# Altium schematic symbol library Kapitoshka.SchLib: 55 symbols
Pins are listed as number, name and electrical type; pins without a type are passive.

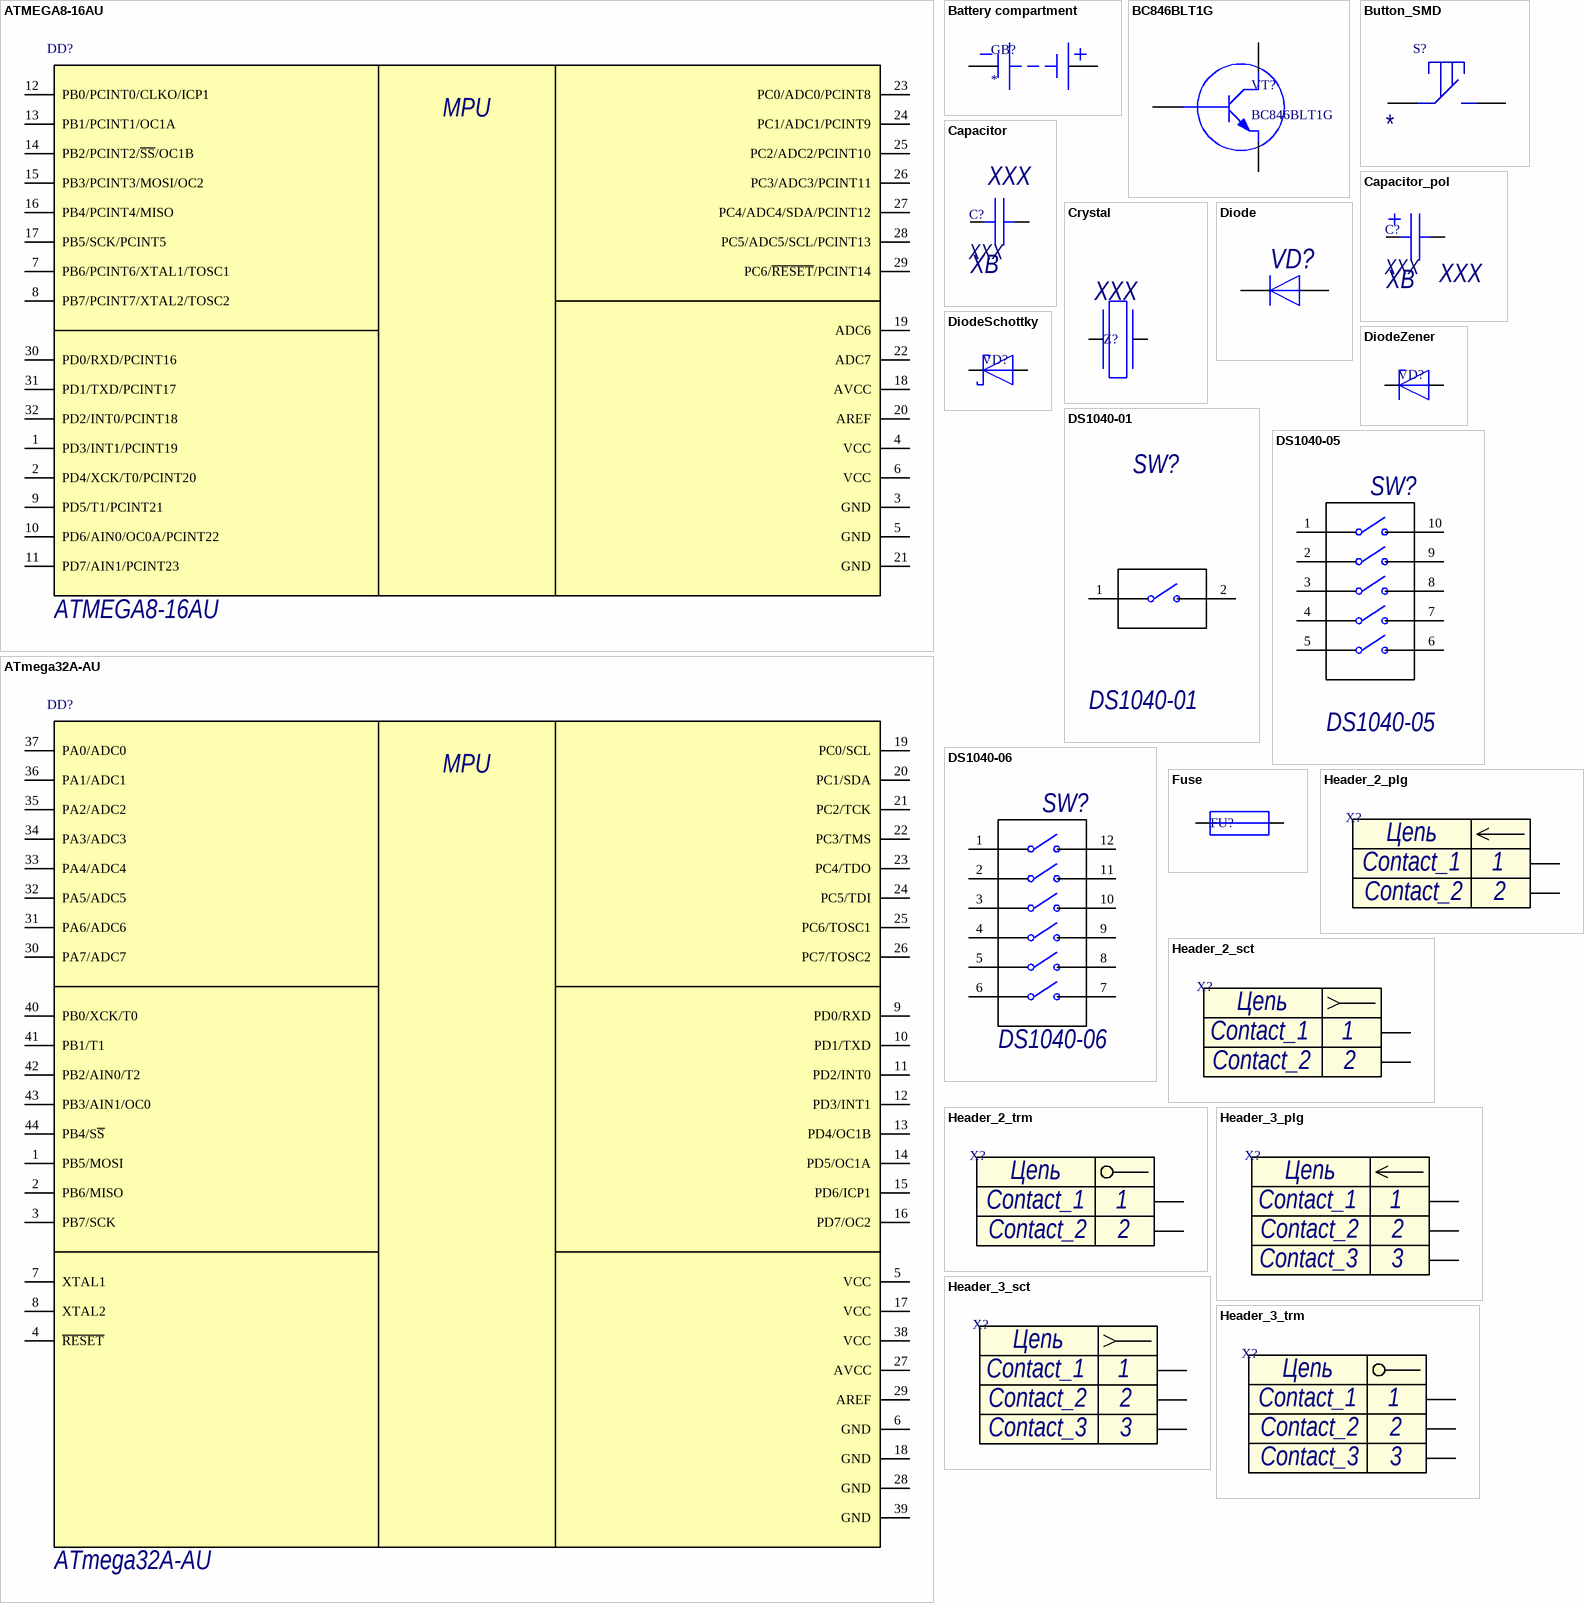
[diagram p0: symbols ATMEGA8-16AU to Header_3_trm]

## ATMEGA8-16AU
designator DD?
Микроконтроллер 32-pin; Name: ATMEGA8-16AU
footprint TQFP-32 (Thin QFP, 32-Leads, Body 7x7mm, Pitch 0.8mm, IPC Medium Density)
pins: 1 PD3/INT1/PCINT19, 2 PD4/XCK/T0/PCINT20, 3 GND, 4 VCC, 5 GND, 6 VCC, 7 PB6/PCINT6/XTAL1/TOSC1, 8 PB7/PCINT7/XTAL2/TOSC2, 9 PD5/T1/PCINT21, 10 PD6/AIN0/OC0A/PCINT22, 11 PD7/AIN1/PCINT23, 12 PB0/PCINT0/CLKO/ICP1, 13 PB1/PCINT1/OC1A, 14 PB2/PCINT2/~{SS}/OC1B, 15 PB3/PCINT3/MOSI/OC2, 16 PB4/PCINT4/MISO, 17 PB5/SCK/PCINT5, 18 AVCC, 19 ADC6, 20 AREF, 21 GND, 22 ADC7, 23 PC0/ADC0/PCINT8, 24 PC1/ADC1/PCINT9, 25 PC2/ADC2/PCINT10, 26 PC3/ADC3/PCINT11, 27 PC4/ADC4/SDA/PCINT12, 28 PC5/ADC5/SCL/PCINT13, 29 PC6/~{RESET}/PCINT14, 30 PD0/RXD/PCINT16, 31 PD1/TXD/PCINT17, 32 PD2/INT0/PCINT18
text: MPU

## ATmega32A-AU
designator DD?
Микроконтроллер 44-pin; Name: ATmega32A-AU
footprint TQFP-44
pins: 1 PB5/MOSI, 2 PB6/MISO, 3 PB7/SCK, 4 ~{RESET}, 5 VCC, 6 GND, 7 XTAL1, 8 XTAL2, 9 PD0/RXD, 10 PD1/TXD, 11 PD2/INT0, 12 PD3/INT1, 13 PD4/OC1B, 14 PD5/OC1A, 15 PD6/ICP1, 16 PD7/OC2, 17 VCC, 18 GND, 19 PC0/SCL, 20 PC1/SDA, 21 PC2/TCK, 22 PC3/TMS, 23 PC4/TDO, 24 PC5/TDI, 25 PC6/TOSC1, 26 PC7/TOSC2, 27 AVCC, 28 GND, 29 AREF, 30 PA7/ADC7, 31 PA6/ADC6, 32 PA5/ADC5, 33 PA4/ADC4, 34 PA3/ADC3, 35 PA2/ADC2, 36 PA1/ADC1, 37 PA0/ADC0, 38 VCC, 39 GND, 40 PB0/XCK/T0, 41 PB1/T1, 42 PB2/AIN0/T2, 43 PB3/AIN1/OC0, 44 PB4/S~{S}
text: MPU

## Battery compartment
designator GB?
Value: *
footprint KLS5-818-D
footprint KLS5-817-D
pins: 1, 2

## BC846BLT1G
designator VT?
footprint SOT23-3
pins: 1 Base, 2 Emitter, 3 Collector

## Button_SMD
designator S?
Кнопка; Name: *
footprint Button_SMD (Кнопка)
footprint DTSM 32 (Кнопка)
pins: 1, 3

## Capacitor
designator C?, comment XXX  Voltage: XВ
Конденсатор; Value: XXX
footprint C0805_A
footprint C0805_H
footprint C1210_A
footprint C1210_H
footprint C1812_A
footprint C1812_H
footprint C2220_A
footprint C2220_H
footprint C0603
footprint C1206
footprint C0805
pins: 1, 2

## Capacitor_pol
designator C?, comment XXX  Voltage: XВ
Конденсатор полярный; Value: XXX
footprint CAP_PIN_RAD_8x8x11
footprint Cap_SMD_radial_polar(10x10.5) (ECAP SMD, 220 мкФ, 35В)
footprint SMA_A
footprint C1206
footprint 3216 Case-A (Tantalum capacitor 3216 Case-A)
pins: 1, 2

## Crystal
designator Z?, comment XXX
Кварцевый резонатор; Value: XXX
footprint HC-49 (Кварцевый резонатор)
footprint HC-49SM (Кварцевый резонатор поверхностного монтажа)
footprint QSMD3.2x5 (KX-9A 8MHz)
pins: 1, 2

## Diode
designator VD?
Диод
footprint SOD-323
footprint SOD523
pins: 1 K, 2 A

## DiodeSchottky
designator VD?
Диод Шоттки
footprint SOD523_A
footprint SOD523_H
footprint SOD123_A
footprint SOD123_H
footprint SMA
pins: 1 K, 2 A

## DiodeZener
designator VD?
Стабилитрон
footprint SOD523_A
footprint SOD523_H
footprint SOT23-2_A
footprint SOT23-2_H
footprint SMA
pins: 1 K, 2 A

## DS1040-01
designator SW?
DIP переключатель
footprint DIP1
pins: 1, 2

## DS1040-05
designator SW?
DIP переключатель
footprint DIP5
footprint NHDS-06 (Переключатель DIP 6поз. 1.27мм)
pins: 1, 2, 3, 4, 5, 6, 7, 8, 9, 10

## DS1040-06
designator SW?
DIP переключатель
footprint DIP6
footprint NHDS-06 (Переключатель DIP 6поз. 1.27мм)
pins: 1, 2, 3, 4, 5, 6, 7, 8, 9, 10, 11, 12

## Fuse
designator FU?
Предохранитель; Value: XXX
footprint R0805_H
footprint R0805_A
footprint R0603_A
footprint R0402_H
footprint FH - 102
footprint MF - R050 (Самовосстанавливающийся предохранитель)
footprint F5.1
pins: 1, 2

## Header_2_plg
designator X?
Разъем - 2 конт. вилка; Contact_1: Contact_1; Contact_2: Contact_2
footprint CWF-2
footprint Terminal_2.54-2
footprint PWL-2R
footprint PBS2-2
footprint MW-2M
footprint MW-2MR
footprint MOLEX_picoblade_2
footprint PLS2-2
pins: 1, 2
text: Цепь

## Header_2_sct
designator X?
Разъем - 2 конт. розетка; Contact_1: Contact_1; Contact_2: Contact_2
footprint Terminal_2.54-2
footprint PWL-2R
footprint PBS2-2
footprint MW-2M
footprint MW-2MR
footprint MOLEX_picoblade_2
footprint CWF-2
footprint 2HOLE
footprint DS1040 (DIP переключатель 1pin)
pins: 1, 2
text: Цепь

## Header_2_trm
designator X?
Разъем - 2 конт. клемма; Contact_1: Contact_1; Contact_2: Contact_2
footprint Terminal_2.54-2
footprint PWL-2R
footprint PBS2-2
footprint MW-2M
footprint MW-2MR
footprint MOLEX_picoblade_2
footprint MF_2x1_H
pins: 1, 2
text: Цепь

## Header_3_plg
designator X?
Разъем - 3 конт. вилка; Contact_1: Contact_1; Contact_2: Contact_2; Contact_3: Contact_3
footprint POWJACK
footprint CWF-3
footprint CWF-3R
pins: 1, 2, 3
text: Цепь

## Header_3_sct
designator X?
Разъем - 2 конт. розетка; Contact_1: Contact_1; Contact_2: Contact_2; Contact_3: Contact_3
footprint MW-3MR
footprint CWF-3
footprint CWF-3R
footprint MOLEX_picoblade_3
footprint MOLEX_picoblade_3R
footprint PWL-3R
footprint MW-3M
footprint PLS2-3
pins: 1, 2, 3
text: Цепь

## Header_3_trm
designator X?
Разъем - 3 конт. клемма; Contact_1: Contact_1; Contact_3: Contact_3; Contact_2: Contact_2
footprint DT-128V-3
pins: 1, 2, 3
text: Цепь

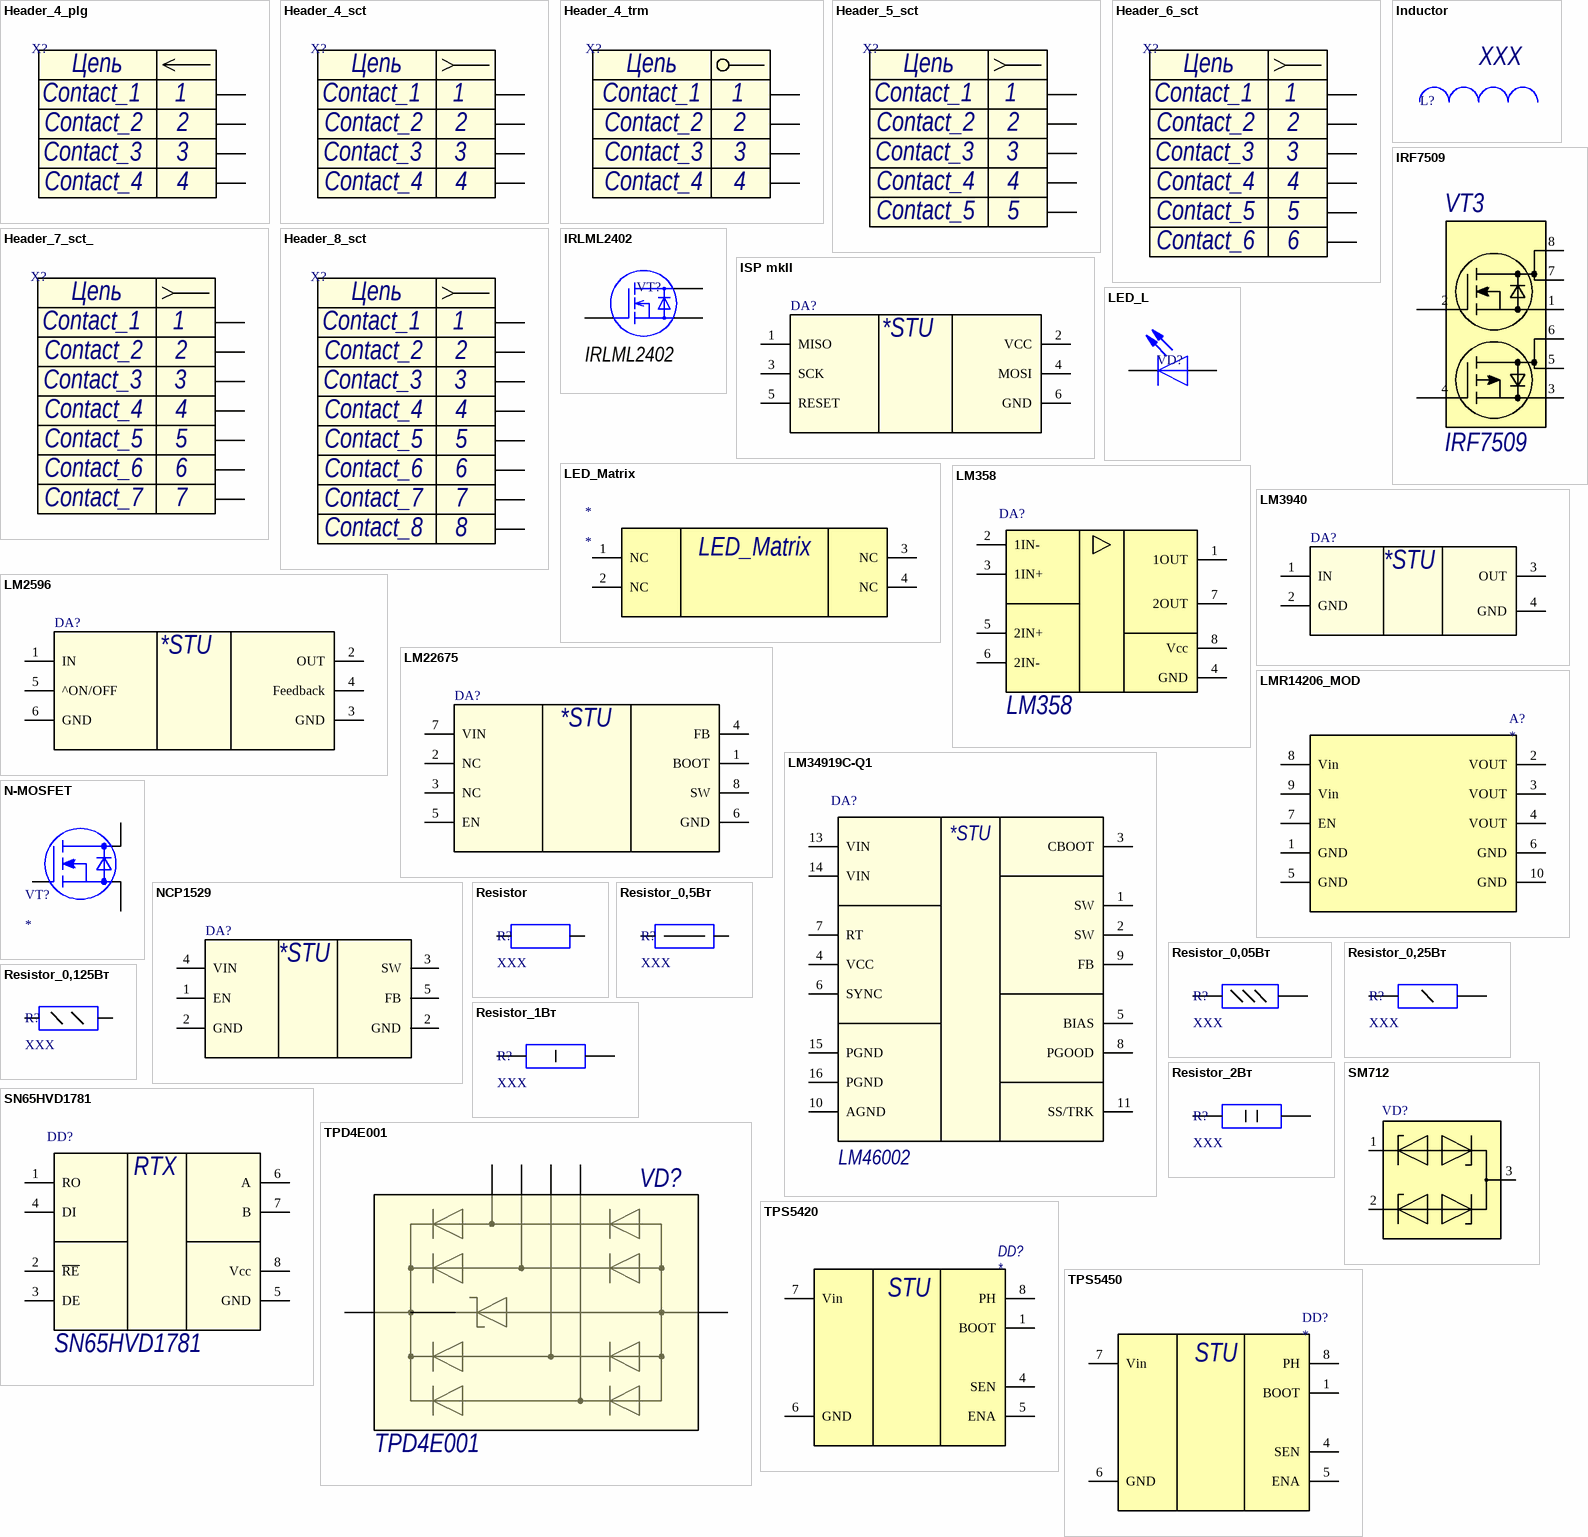
[diagram p1: symbols Header_4_plg to TPS5450]

## Header_4_plg
designator X?
Разъем - 4 конт. вилка; Contact_1: Contact_1; Contact_2: Contact_2; Contact_3: Contact_3; Contact_4: Contact_4
footprint MOLEX_picoblade_4
footprint MOLEX_picoblade_4R
footprint MW-4M
footprint MW-4MR
footprint PLS-4
pins: 1, 2, 3, 4
text: Цепь

## Header_4_sct
designator X?
Разъем - 4 конт. розетка; Contact_1: Contact_1; Contact_2: Contact_2; Contact_3: Contact_3; Contact_4: Contact_4
footprint MOLEX_picoblade_4
footprint MOLEX_picoblade_4R
footprint MW-4M
footprint MW-4MR
footprint PLS-4
footprint USB-Mini
footprint USB-Mini - duplicate
footprint USB-Mini DIP
footprint USBB-J1
footprint USB-B Micro
footprint 4HOLE
footprint OLED SSD1306 (OLED дисплей SSD1306)
pins: 1, 2, 3, 4
text: Цепь

## Header_4_trm
designator X?
Разъем - 3 конт. клемма; Contact_1: Contact_1; Contact_3: Contact_3; Contact_2: Contact_2; Contact_4: Contact_4
footprint DT-128V-4
footprint CWF-4
pins: 1, 2, 2, 2
text: Цепь; 3; 4

## Header_5_sct
designator X?
Разъем - 4 конт. розетка; Contact_1: Contact_1; Contact_2: Contact_2; Contact_3: Contact_3; Contact_4: Contact_4; Contact_5: Contact_5
footprint USB-B Micro
footprint MW-5M
footprint MW-5MR
footprint MOLEX_picoblade_5
footprint CWF-5R
footprint 5HOLE
pins: 1, 2, 3, 4, 5
text: Цепь

## Header_6_sct
designator X?
Разъем - 5 конт. розетка; Contact_1: Contact_1; Contact_2: Contact_2; Contact_3: Contact_3; Contact_4: Contact_4; Contact_5: Contact_5; Contact_6: Contact_6
footprint CWF-6R
footprint CWF-6
footprint PLS2-6 (Разъем для программатора ISP)
pins: 1, 2, 3, 4, 5, 6
text: Цепь

## Header_7_sct_
designator X?
Разъем - 5 конт. розетка; Contact_1: Contact_1; Contact_2: Contact_2; Contact_3: Contact_3; Contact_4: Contact_4; Contact_5: Contact_5; Contact_7: Contact_7; Contact_6: Contact_6
footprint 7HOLE
pins: 1, 2, 3, 4, 5, 6, 7
text: Цепь

## Header_8_sct
designator X?
Разъем - 5 конт. розетка; Contact_1: Contact_1; Contact_2: Contact_2; Contact_3: Contact_3; Contact_4: Contact_4; Contact_5: Contact_5; Contact_6: Contact_6; Contact_7: Contact_7; Contact_8: Contact_8
footprint PLS2-8 (Разъем для программатора ISP)
footprint 8HOLE (Разъем для программатора ISP)
footprint ESP8266 (Разъем для ESP8266)
pins: 1, 2, 3, 4, 5, 6, 7, 8
text: Цепь

## Inductor
designator L?, comment XXX
Катушка индуктивности; Value: XXX
footprint Ind 8.3x8.3x4
footprint IND_CDC5D23B
footprint IND_CDR74NP
footprint IND_CDRH4D28C_A
footprint IND_CDRH4D28C_H
footprint IND_CDRH104
footprint IND_CDRH127
footprint IND_RCR-875D
footprint IND_SRU1048_A
footprint IND_SRU1048_H
footprint L0603_A
footprint L0603_H
footprint L0805_A
footprint L_1210
footprint SDR0604 (SMD Power Inductors)
pins: 1, 2

## IRF7509
designator VT3
Комплементарная сборка МОП; Name: IRF7509
footprint Micro8
pins: 1 S1, 2 G1, 3 S2, 4 G2, 5 D2, 6 D2, 7 D1, 8 D1

## IRLML2402
designator VT?
MOSFET; Manufacturer: International Rectifier; Manufacturer Part Number: IRLML2402GTRPBF; FET Type: MOSFET N-Channel, Metal Oxide; FET Feature: Logic Level Gate; Drain to Source Voltage (Vdss): 20V; Current - Continuous Drain (Id) @ 25°C: 1.2A (Ta); Rds On (Max) @ Id, Vgs: 250 mOhm @ 930mA, 4.5V; Vgs(th) (Max) @ Id: 700mV @ 250µA; Gate Charge (Qg) @ Vgs: 3.9nC @ 4.5V; Input Capacitance (Ciss) @ Vds: 110pF @ 15V; Power - Max: 540mW; Supplier 1: Digi-Key; Supplier Part Number 1: IRLML2402GTRPBFTR-ND; Category: Discrete Semiconductor Products; Packaging: Tape & Reel (TR); Supplier: Digi-Key; RoHS: RoHS Compliant; Mounting Type: Surface Mount; Package / Case: TO-236-3, SC-59, SOT-23-3; Supplier Device Package: Micro3™/SOT-23; Supplier Part Number: IRLML2402GTRPBFTR-ND; Name: IRLML2402
footprint SOT23-3_A
footprint SOT23-3_H
pins: 1 G, 2 S, 3 D

## ISP mkII
designator DA?
Разъем программатора ISP mkII
footprint PLS2-6 (Разъем для программатора ISP)
pins: 1 MISO (power), 2 VCC (power), 3 SCK (power), 4 MOSI (power), 5 RESET (power), 6 GND (power)
text: *STU

## LED_L
designator VD?
Светодиод
footprint D0603_A
footprint D0603_H
footprint L_0805 (SMD LED LAMP)
pins: 1 K, 2 A

## LED_Matrix
designator *
Contact_1: GND; Contact_4: GND; Contact_3: GND; Contact_2: GND
footprint LED_Matrix (Светодиодная матрица 8х8 32х32)
pins: 1 NC, 2 NC, 3 NC, 4 NC

## LM358
designator DA?
ОУ; Name: LM358
footprint SO8_A
pins: 1 1OUT, 2 1IN-, 3 1IN+, 4 GND, 5 2IN+, 6 2IN-, 7 2OUT, 8 Vcc

## LM2596
designator DA?
3-A Step-Down Voltage Regulator
footprint TO-263
pins: 1 IN (power), 2 OUT (power), 3 GND (power), 4 Feedback (power), 5 ^ON/OFF (power), 6 GND (power)
text: *STU

## LM3940
designator DA?
Low-Dropout Regulator for 5-V to 3.3-V Conversion
footprint SOT223
pins: 1 IN (power), 2 GND (power), 3 OUT (power), 4 GND (power)
text: *STU

## LM22675
designator DA?
3-A Step-Down Voltage Regulator
footprint HSOP
pins: 1 BOOT (power), 2 NC (power), 3 NC (power), 4 FB (power), 5 EN (power), 6 GND (power), 7 VIN (power), 8 SW (power)
text: *STU

## LM34919C-Q1
designator DA?, comment LM46002
DC\DC; Name: LM46002
footprint HTSSOP10
pins: 1 SW, 2 SW, 3 CBOOT, 4 VCC, 5 BIAS, 6 SYNC, 7 RT, 8 PGOOD, 9 FB, 10 AGND, 11 SS/TRK, 13 VIN, 14 VIN, 15 PGND, 16 PGND
text: *STU

## LMR14206_MOD
designator A?
DC/DC
footprint LMR14206_MOD
pins: 1 GND, 2 VOUT, 3 VOUT, 4 VOUT, 5 GND, 6 GND, 7 EN, 8 Vin, 9 Vin, 10 GND

## N-MOSFET
designator VT?
N-MOSFET; Name: *; Vgs: *; Vds: *; Ids: *
footprint SOT23-3_A
footprint SOT23-3_H
pins: 1 G, 2 S, 3 D

## NCP1529
designator DA?
Output Voltage Step-down  Converter
footprint TSOP-5
pins: 1 EN (power), 2 GND (power), 2 GND (power), 3 SW (power), 4 VIN (power), 5 FB (power)
text: *STU

## Resistor
designator R?, comment XXX
Резистор; Value: XXX
footprint R0805_A
footprint R0805_H
pins: 1, 2

## Resistor_0,05Вт
designator R?, comment XXX
Резистор; Value: XXX
footprint R0805_A
footprint R0805_H
footprint R0603
pins: 1, 2

## Resistor_0,5Вт
designator R?, comment XXX
Резистор; Value: XXX
footprint R0805_A
footprint R0805_H
pins: 1, 2

## Resistor_0,25Вт
designator R?, comment XXX
Резистор; Value: XXX
footprint R0805_A
footprint R0805_H
footprint R0603
pins: 1, 2 5

## Resistor_0,125Вт
designator R?, comment XXX
Резистор; Value: XXX
footprint R0805_A
footprint R0805_H
footprint R0603
footprint R0805 (Chip Resistor, 2-Leads, Body 2,10x1,30mm, IPC Medium Density)
pins: 1, 2 5

## Resistor_1Вт
designator R?, comment XXX
Резистор; Value: XXX
footprint R0805_A
footprint R0805_H
footprint R0603
pins: 1, 2

## Resistor_2Вт
designator R?, comment XXX
Резистор; Value: XXX
footprint R0805_A
footprint R0805_H
footprint R0603
pins: 1, 2

## SM712
designator VD?
TVS
footprint SOT23-3_A
footprint SOT23-3_H
footprint SOT23-3
pins: 1, 2 1, 3

## SN65HVD1781
designator DD?
Приемопередатчик RS485; Name: SN65HVD1781
footprint SO8_A
footprint SO8_H
pins: 1 RO, 2 ~{RE}, 3 DE, 4 DI, 5 GND, 6 A, 7 B, 8 Vcc
text: RTX

## TPD4E001
designator VD?
Диодная сборка; Manufacturer: Texas Instruments; Name: TPD4E001
footprint SOT23-6
pins: 1 IO1, 2 GND, 3 IO2, 4 IO3, 5 VCC, 6 IO4

## TPS5420
designator DD?
footprint SO8_A
footprint SO8_H
pins: 1 BOOT, 4 SEN, 5 ENA, 6 GND, 7 Vin, 8 PH
text: STU

## TPS5450
designator DD?
footprint SO8_A PowerPad
pins: 1 BOOT, 4 SEN, 5 ENA, 6 GND, 7 Vin, 8 PH
text: STU

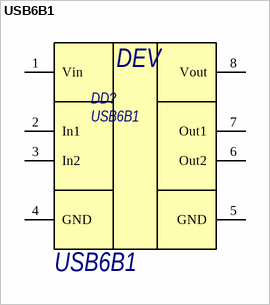
[diagram p2: symbol USB6B1]

## USB6B1
designator DD?
Защита USB; Name: USB6B1
footprint SO8_H
pins: 1 Vin, 2 In1, 3 In2, 4 GND, 5 GND, 6 Out2, 7 Out1, 8 Vout
text: DEV